# EAGLE library part PINHD-1X21 (library pinhead)
PIN HEADER
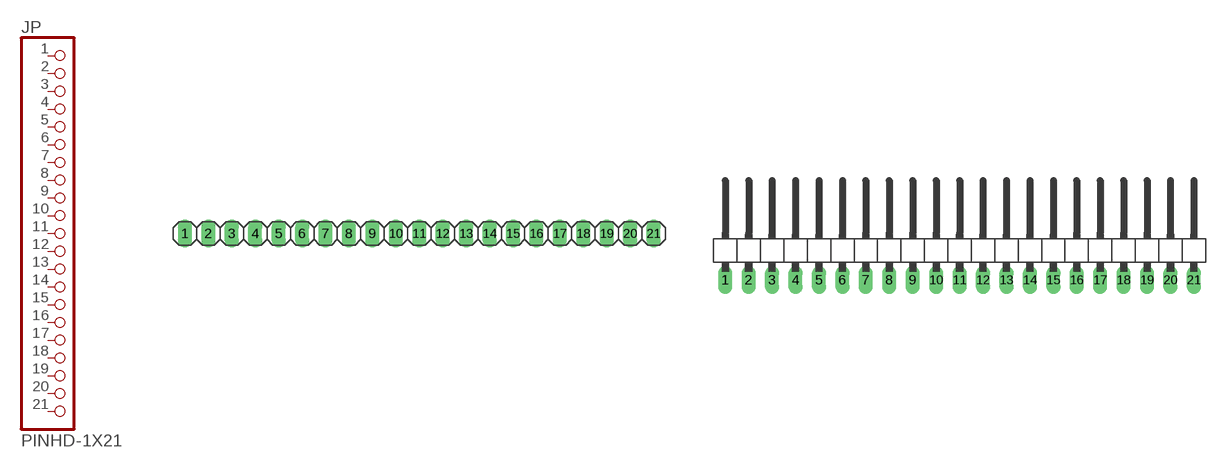
[diagram p0: symbol with the pads of 1X21; footprints 1X21, 1X21/90]

Designator prefix JP

## PINHD-1X21  [1X21]
1  1  pas
2  2  pas
3  3  pas
4  4  pas
5  5  pas
6  6  pas
7  7  pas
8  8  pas
9  9  pas
10  10  pas
11  11  pas
12  12  pas
13  13  pas
14  14  pas
15  15  pas
16  16  pas
17  17  pas
18  18  pas
19  19  pas
20  20  pas
21  21  pas

## PINHD-1X21/90  [1X21/90]
Pads as for 1X21

## Footprint 1X21 (pad centres in mm)
PIN HEADER
drill 1.016 long: 1 -25.4,0; 2 -22.86,0; 3 -20.32,0; 4 -17.78,0; 5 -15.24,0; 6 -12.7,0; 7 -10.16,0; 8 -7.62,0; 9 -5.08,0; 10 -2.54,0; 11 0,0; 12 2.54,0; 13 5.08,0; 14 7.62,0; 15 10.16,0; 16 12.7,0; 17 15.24,0; 18 17.78,0; 19 20.32,0; 20 22.86,0; 21 25.4,0

## Footprint 1X21/90 (pad centres in mm)
PIN HEADER
drill 1.016 long: 1 -25.4,-3.81; 2 -22.86,-3.81; 3 -20.32,-3.81; 4 -17.78,-3.81; 5 -15.24,-3.81; 6 -12.7,-3.81; 7 -10.16,-3.81; 8 -7.62,-3.81; 9 -5.08,-3.81; 10 -2.54,-3.81; 11 0,-3.81; 12 2.54,-3.81; 13 5.08,-3.81; 14 7.62,-3.81; 15 10.16,-3.81; 16 12.7,-3.81; 17 15.24,-3.81; 18 17.78,-3.81; 19 20.32,-3.81; 20 22.86,-3.81; 21 25.4,-3.81